# EAGLE library part 653010114822 (library Wire_to_Board_Connectors_rev15d)
WR-WTB 1.25mm Male Vertical Shrouded Header, 10 Pins=>Code : Con_WTB_1.25_PCB_THT_653010114822 <http://katalog.we-online.de/media/thumbs2/eican/thb_Con_WTB_1.25_PCB_THT_6530xx114822_pf2.jpg> Details see: http://katalog.we-online.de/en/em/653_0xx_114_822 Created 2014-06-06, Karrer Zheng 2014 (C) Würth Elektronik
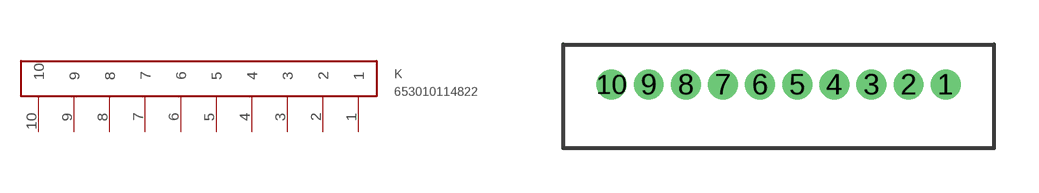
[diagram p85: symbol with the pads of 653010114822; footprint 653010114822]

Designator prefix K

## 653010114822  [653010114822]
1  1  pas
2  2  pas
3  3  pas
4  4  pas
5  5  pas
6  6  pas
7  7  pas
8  8  pas
9  9  pas
10  10  pas

## Footprint 653010114822 (pad centres in mm)
WR-WTB 1.25mm Male Vertical Shrouded Header, 10 Pins
drill 0.5: 1 0.625,0; 2 -0.625,0; 3 -1.875,0; 4 -3.125,0; 5 -4.375,0; 6 -5.625,0; 7 -6.875,0; 8 -8.125,0; 9 -9.375,0; 10 -10.625,0